# EAGLE library part 64901221022 (library Wurth_Elektronik_Electromechanic_Wire_to_Board_Connectors_rev16a)
WR-MPC4-4.20mm Male Dual Row Angled Header with Mounting Flanges for Screw-in Retention,12 pins=>Code : Con_WTB_MPC4_2_PCB_64901221022 <http://katalog.we-online.de/media/thumbs2/eican/thb_Con_WTB_MPC4_2_PCB_6490xx21022_pf2.jpg> Details see: http://katalog.we-online.de/en/em/649_0xx_210_22 Created 2014-06-06, Karrer Zheng 2014 (C) Würth Elektronik
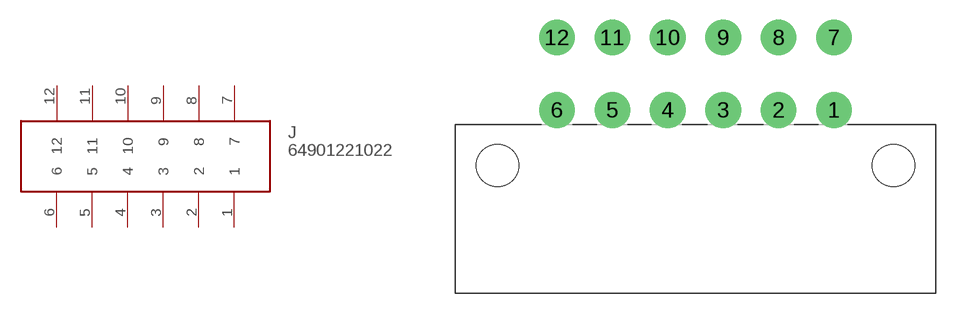
[diagram p290: symbol with the pads of 64901221022; footprint 64901221022]

Designator prefix J

## 64901221022  [64901221022]
1  1
2  2
3  3
4  4
5  5
6  6
7  7
8  8
9  9
10  10
11  11
12  12

## Footprint 64901221022 (pad centres in mm)
WR-MPC4-4.20mm Male Dual Row Angled Header with Mounting Flanges for Screw-in Retention,12 pins
drill 1.8: 1 10.5,4.2; 2 6.3,4.2; 3 2.1,4.2; 4 -2.1,4.2; 5 -6.3,4.2; 6 -10.5,4.2; 7 10.5,9.7; 8 6.3,9.7; 9 2.1,9.7; 10 -2.1,9.7; 11 -6.3,9.7; 12 -10.5,9.7
hole 3.2 at -15,0
hole 3.2 at 15,0